# EAGLE library part SN65HVD178X (library Interface)
SN65HVD178x Fault-Protected RS-485 Transceivers With 3.3-V to 5-V Operation • Operation With 3.3-V to 5-V Supply Range • ±16-kV HBM Protection on Bus Pins • Failsafe Receiver for Open-Circuit, Short-Circuit and Idle-Bus Conditions Datasheet <http://www.ti.com/lit/ds/symlink/sn65hvd1780-q1.pdf>
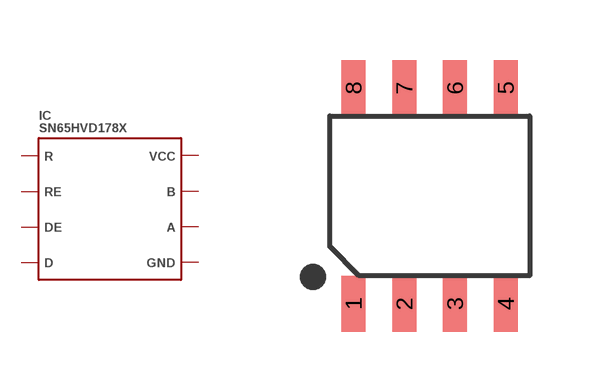
[diagram p9: symbol with the pads of SOIC8-1.27-5X4MM; footprint SOIC8-1.27-5X4MM]

Designator prefix IC

## SN65HVD178X  [SOIC8-1.27-5X4MM]
1  P$1
2  P$2
3  P$3
4  P$4
5  P$5
6  P$6
7  P$7
8  P$8

## Footprint SOIC8-1.27-5X4MM (pad centres in mm)
smd 0.6 x 1.4: 1 -1.905,-2.7; 2 -0.635,-2.7; 3 0.635,-2.7; 4 1.905,-2.7; 5 1.905,2.7; 6 0.635,2.7; 7 -0.635,2.7; 8 -1.905,2.7